# Altium schematic symbol library Schlib1.SchLib: 4 symbols
Pins are listed as number, name and electrical type; pins without a type are passive.

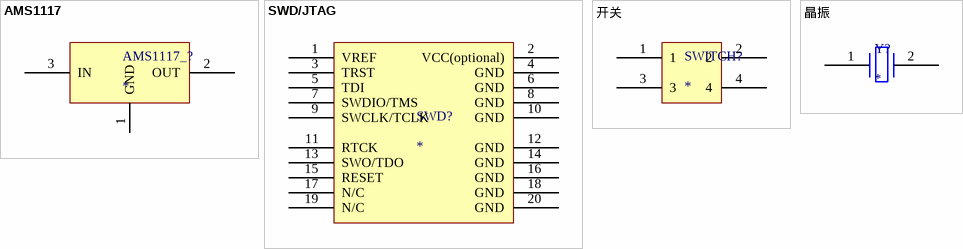
[diagram p0: symbols AMS1117 to 晶振]

## AMS1117
designator AMS1117_?
footprint AMS1117 (SOT223, 4-Leads, Body 6.50x7.00mm (avg), Pitch 2.30mm, IPC Medium Density)
pins: 1 GND, 2 OUT, 3 IN

## SWD/JTAG
designator SWD?
footprint SWD
pins: 1 VREF, 2 VCC(optional), 3 TRST, 4 GND, 5 TDI, 6 GND, 7 SWDIO/TMS, 8 GND, 9 SWCLK/TCLK, 10 GND, 11 RTCK, 12 GND, 13 SWO/TDO, 14 GND, 15 RESET, 16 GND, 17 N/C, 18 GND, 19 N/C, 20 GND

## 开关
designator SWITCH?
footprint 开关
pins: 1, 2, 3, 4

## 晶振
designator Y?
pins: 1, 2